# Altium footprint library MA5172AE.PcbLib: 1 footprints
Each footprint in its own frame and in the unit in brackets; x right, y up, seen from the top. Pads: shape width x height; smd on the part's side, far side on the other; paste and mask are expansions set on the pad; w line width, h text height; cw(c..) or ccw(c..) is an arc to the next point about the centre after c.
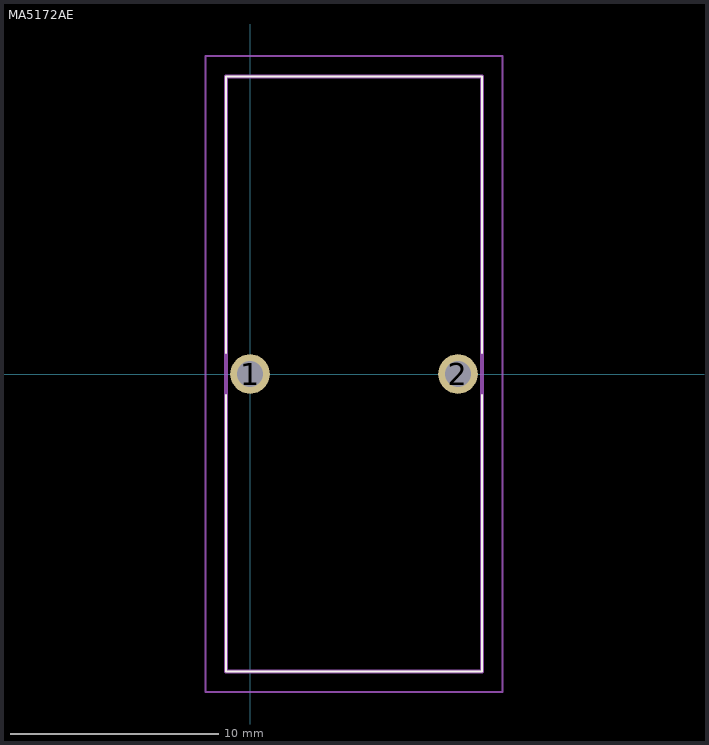
[diagram p0: the footprint, top view; thin cyan lines are the x and y axes]

## MA5172AE [mm]
pads (2):
  round 1.905 hole 1.27: 1(0,0) 2(10,0)
Top Overlay:
  lines w0.1: -1.15,-1 -1.15,-14.3 11.15,-14.3 11.15,-1 ; -1.15,1 -1.15,14.3 11.15,14.3 11.15,1
Mechanical 15:
  lines w0.2: -1.15,-14.3 11.15,-14.3 11.15,14.3 -1.15,14.3 -1.15,-14.3
Mechanical 20:
  lines w0.1: -2.15,-15.3 12.15,-15.3 12.15,15.3 -2.15,15.3 -2.15,-15.3